# Altium schematic symbol library Components - 24.12.23 - 11.08.SchLib: 1 symbol
Pins are listed as number, name and electrical type; pins without a type are passive.

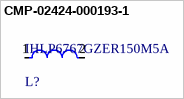
[diagram p0: symbol CMP-02424-000193-1]

## CMP-02424-000193-1
designator L?, comment IHLP6767GZER150M5A
Automotive Inductors, High Temperature (155 °C) Series 15uH 12.5A 16.96mΩ 20%; Saturation Current: 13A; Shielding: Shielded; DC Resistance (DCR): 16.96mR; Test Frequency: 100kHz; RMS Current (Irms): 12.5A; Lead Free: Lead Free; Package Quantity: 200; Current Rating: 12.5A; Mount: Surface Mount; Military Standard: Not; Length: 0.675inch; Tolerance: 20%; Radiation Hardening: No; Inductance: 15uH; Case/Package: 6767; Min Operating Temperature: -55°C; Width: 0.675inch; Max Operating Temperature: 155°C; Max DC Current: 13A; Height: 7mm; Packaging: Tape and Reel; Inductance Tolerance: 20%; Depth: 17.15mm; Height - Seated (Max): 0.158inch; Termination: SMD/SMT
footprint FP-IHLP-6767GZ-FP_3_825x1-MFG
pins: 1, 2